# EAGLE library part UMH3N (library SMARTBALL_v1)
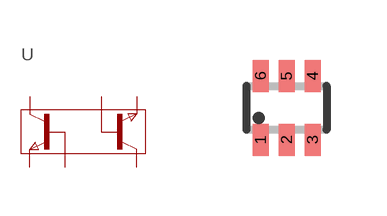
[diagram p6: symbol with the pads of SOT363_PHILIPS; footprint SOT363_PHILIPS]

Designator prefix -

## UMH3N  [SOT363_PHILIPS]
1  E1  pas
2  B1  pas
3  C2  pas
4  E2  pas
5  B2  pas
6  C1  pas

## Footprint SOT363_PHILIPS (pad centres in mm)
Small Outline Transistor; 6 leads Philips Semiconductors, SOT363.pdf
smd 0.4 x 0.8: 1 -0.65,-0.8; 2 0,-0.8; 3 0.65,-0.8; 4 0.65,0.8; 5 0,0.8; 6 -0.65,0.8